# EAGLE library part LMR33620ADDA (library texas)
Switching Voltage Regulator
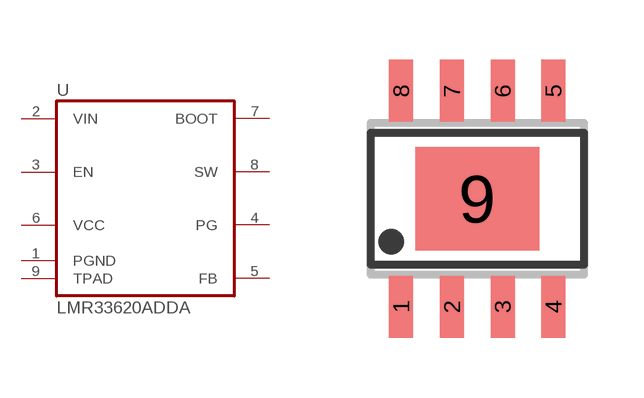
[diagram p128: symbol with the pads of SO08-POWERPAD; footprint SO08-POWERPAD]

Designator prefix U

## LMR33620ADDADDA  [SO08-POWERPAD]
1  PGND  pas
2  VIN  in
3  EN  pas
4  PG  in
5  FB  in
6  VCC  pas
7  BOOT  in
8  SW  pas
9  TPAD  pas

## Footprint SO08-POWERPAD (pad centres in mm)
smd 0.6 x 1.55: 1 -1.905,-2.7; 2 -0.635,-2.7; 3 0.635,-2.7; 4 1.905,-2.7; 5 1.905,2.7; 6 0.635,2.7; 7 -0.635,2.7; 8 -1.905,2.7
smd 3.1 x 2.6: 9 0,0